# Altium footprint library BASE_BD.PcbLib: 62 footprints (part 4 of 4)
Each footprint in its own frame and in the unit in brackets; x right, y up, seen from the top. Pads: shape width x height; smd on the part's side, far side on the other; paste and mask are expansions set on the pad; w line width, h text height; cw(c..) or ccw(c..) is an arc to the next point about the centre after c.
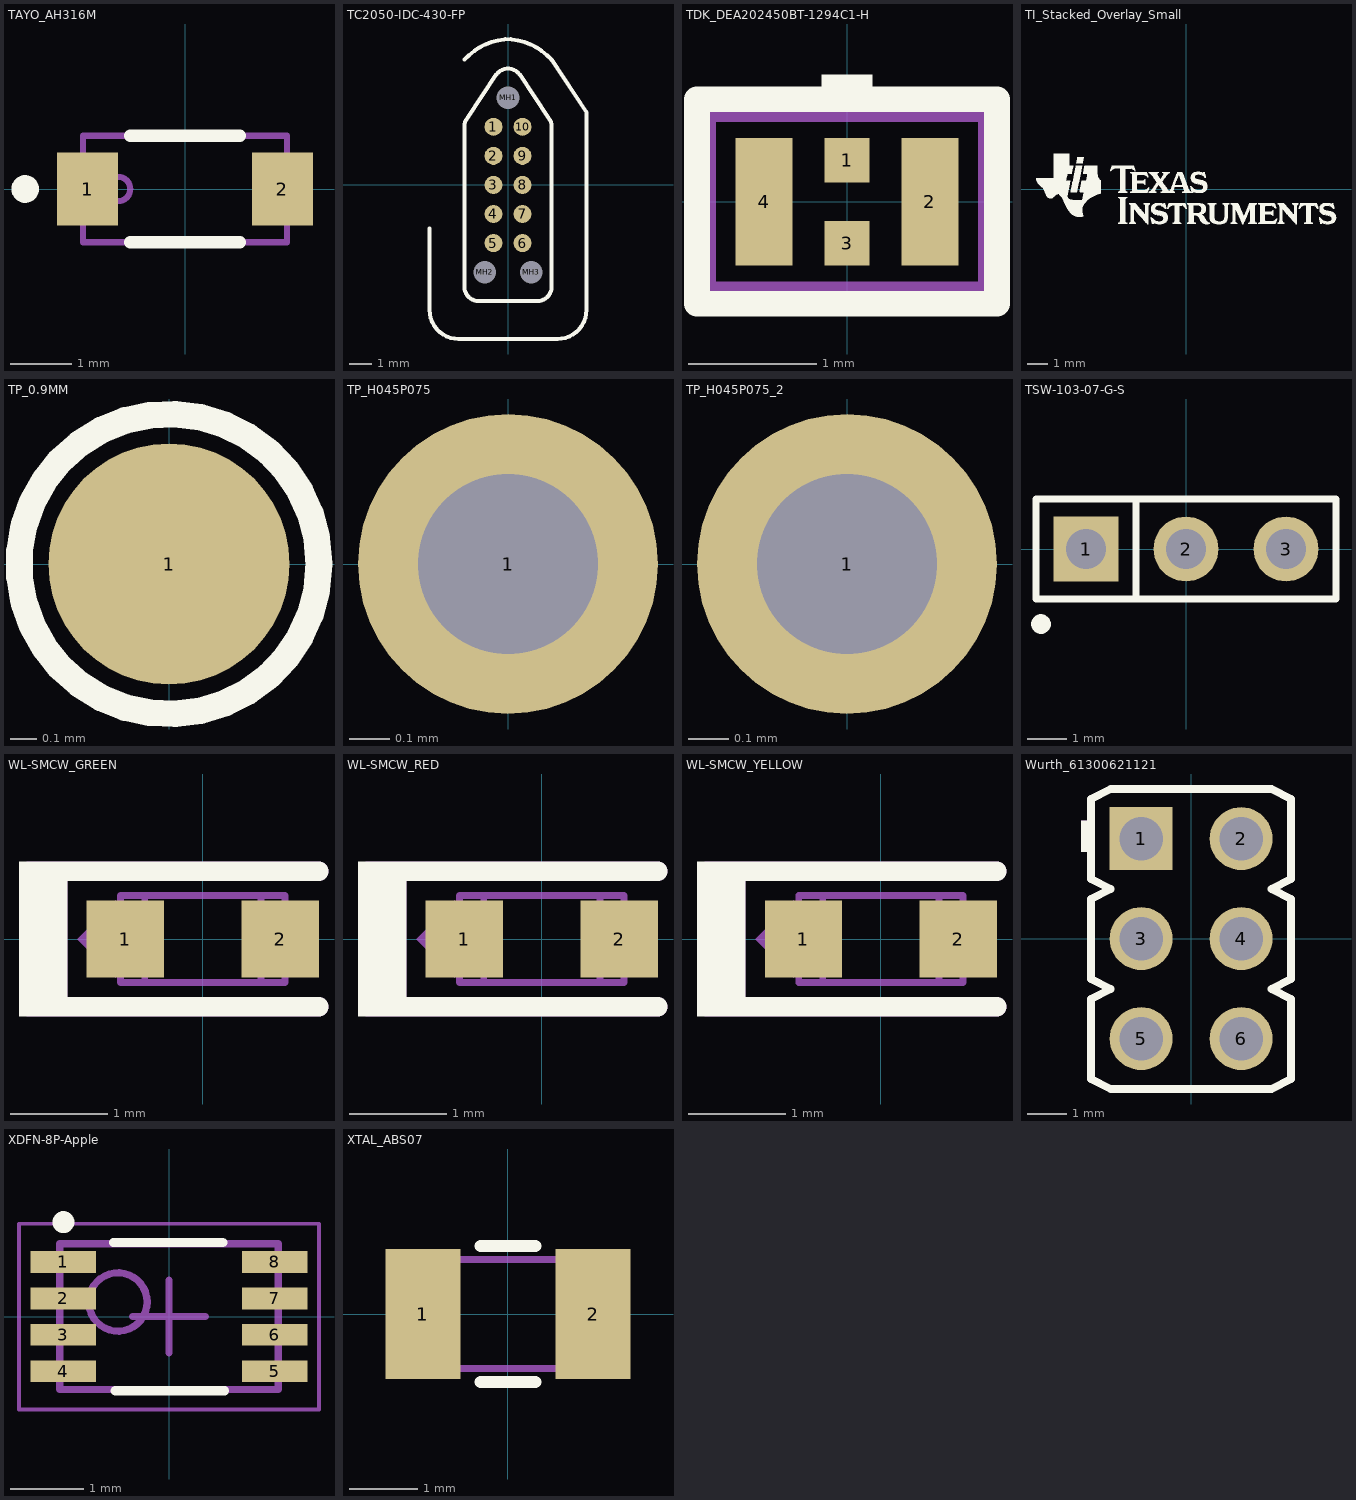
[diagram p3: the footprints below, top view; thin cyan lines are the x and y axes]

## TAYO_AH316M [mm] "SMD, 2-Leads, Body 3.2x1.6mm"
height 0.6
pads (2):
  rect 1x1.2 smd: 1(-1.6,0) 2(1.6,0)
Top Overlay:
  circle w0.254: c-2.627,0 r0.1
  lines w0.2: -0.9,-0.875 0.9,-0.875 ; -0.9,0.875 0.9,0.875
Mechanical 5:
  circle w0.1: c-1.1,0 r0.2
  lines w0.1: -1.675,-0.875 1.675,-0.875 1.675,0.875 -1.675,0.875 -1.675,-0.875
  text ".Designator" at 0.31,0.229 h0.64
3D body: height 0.61, standoff 0.01, extent -1.398,-0.299 -0.8,0.3
3D body: height 0.6, standoff 0, extent -1.675,-0.875 1.675,0.875

## TC2050-IDC-430-FP [mil] "TAG-CONNECT"
height 1285.83
pads (13):
  round 31 smd paste-16: 1(-25,100) 2(-25,50) 3(-25,0) 4(-25,-50) 5(-25,-100) 6(25,-100) 7(25,-50) 8(25,0) 9(25,50) 10(25,100)
  round 31 hole 39 unplated mask+8: MH1(0,150) MH2(-40,-150) MH3(40,-150)
Top Overlay:
  lines w7: -135,-75.22 -135,-215 ccw(c-85,-215) -85,-265 85,-265 ccw(c85,-215) 135,-215 135,-200 135,125 75,215 ; -74.51,215.56 cw(c4.71,144.7) 4.71,250.98 ; -4.71,250.98 cw(c-4.71,144.7) 74.51,215.56 ; -75,-175 ccw(c-50,-175) -50,-200 50,-200 ccw(c50,-175) 75,-175 75,100 ccw(c50,100) 70,115 20,190 ccw(c0,175) -20,190 -70,115 ccw(c-50,100) -75,100 -75,-175

## TDK_DEA202450BT-1294C1-H [mm] "SMD, 4-Leads, Body 2x1.25mm"
height 0.8
pads (4):
  rect 0.35x0.35 smd: 1(0,0.325) 3(0,-0.325)
  rect 0.45x1 smd: 2(0.65,0) 4(-0.65,0)
Top Overlay:
  rectangle: -0.2,0.797 0.2,0.997
  lines w0.2: -1.175,-0.8 1.175,-0.8 1.175,0.8 -1.175,0.8 -1.175,-0.8
Mechanical 5:
  rectangle: -0.2,0.674 0.2,0.899
  lines w0.1: -1.075,-0.675 -1.075,0.675 1.075,0.675 1.075,-0.675 -1.075,-0.675
3D body: height 0.8, standoff 0.7, extent -0.8,-0.4 -0.2,0.4
3D body: height 0.8, standoff 0.7, extent -1.075,-0.675 1.075,0.675
3D body: height 0.7, standoff 0, extent -1.075,-0.675 1.075,0.675

## TI_Stacked_Overlay_Small [mm]
height 1.415
Top Overlay:
  drawing of 18 lines, arcs and shapes, not listed

## TP_0.9MM [mm]
pads (1):
  round 0.9 smd paste-5 mask+0.05: 1(0,0)
Top Overlay:
  circle w0.1: c0,0 r0.56

## TP_H045P075 [mm] "TP_H0.45P0.75"
pads (1):
  round 0.75 hole 0.45 mask+0.064: 1(0,0)

## TP_H045P075_2 [mm]
pads (1):
  round 0.75 hole 0.45: 1(0,0)

## TSW-103-07-G-S [mm] "Samtec 100mil, 1x3, 230 mil above insulator"
height 8.382
pads (3):
  rect 1.65x1.65 hole 1.016 mask+0.064: 1(-2.54,0)
  round 1.65 hole 1.016 mask+0.064: 2(0,0) 3(2.54,0)
Top Overlay:
  circle w0.25: c-3.683,-1.905 r0.125
  lines w0.178: -1.27,-1.27 -1.27,1.27 ; -3.81,-1.27 3.81,-1.27 3.81,1.27 -3.81,1.27 -3.81,-1.27
Mechanical 5:
  rectangle: -3.048,-0.508 -2.032,0.508
  lines w0.127: -3.81,-1.27 -3.81,1.27 3.81,1.27 3.81,-1.27 -3.81,-1.27
  text ".Designator" at -1.524,-0.508 h1.02
3D body "SamtecTSW-07_3x1.stp": height 8.38, standoff -2.54, extent -3.81,-1.27 3.81,1.27

## WL-SMCW_GREEN [mm] "WURTH"
height 0.8
pads (2):
  rect 0.8x0.8 smd: 1(-0.8,0) 2(0.8,0)
Top Overlay:
  rectangle: -1.9,-0.8 -1.4,0.8
  lines w0.2: -1.6,-0.7 1.2,-0.7 ; -1.6,0.7 1.2,0.7
Mechanical 5:
  region: -0.9,-0.4 -0.9,0.4 -1.3,0
  lines w0.2: -1.65,-0.7 -1.65,0.55 ; 1.2,-0.7 -1.5,-0.7 ; 1.2,0.7 -1.5,0.7 ; -1.5,-0.7 -1.5,0.7 ; -1.5,-0.7 -1.8,-0.7 -1.8,0.7 -1.5,0.7
  text ".Designator" at -0.409,-0.3 h0.45
Mechanical 13:
  lines w0.07: -0.6,-0.45 -0.6,0.45 ; 0.6,-0.45 0.6,0.45 ; -0.85,-0.45 -0.85,0.45 0.85,0.45 0.85,-0.45 -0.85,-0.45
3D body: height 0.35, standoff 0, extent -0.849,-0.449 -0.601,0.449
3D body: height 0.35, standoff 0, extent -0.599,-0.449 0.599,0.449
3D body: height 0.35, standoff 0, extent 0.601,-0.449 0.849,0.449
3D body: height 0.8, standoff 0.35, extent -0.599,-0.449 0.599,0.449
3D body: height 0.36, standoff 0.35, extent -0.599,-0.449 0.599,0.449

## WL-SMCW_RED [mm] "WURTH"
height 0.8
pads (2):
  rect 0.8x0.8 smd: 1(-0.8,0) 2(0.8,0)
Top Overlay:
  rectangle: -1.9,-0.8 -1.4,0.8
  lines w0.2: -1.6,-0.7 1.2,-0.7 ; -1.6,0.7 1.2,0.7
Mechanical 5:
  region: -0.9,-0.4 -0.9,0.4 -1.3,0
  lines w0.2: -1.65,-0.7 -1.65,0.55 ; 1.2,-0.7 -1.5,-0.7 ; 1.2,0.7 -1.5,0.7 ; -1.5,-0.7 -1.5,0.7 ; -1.5,-0.7 -1.8,-0.7 -1.8,0.7 -1.5,0.7
  text ".Designator" at -0.8,-0.3 h0.45
Mechanical 13:
  lines w0.07: -0.6,-0.45 -0.6,0.45 ; 0.6,-0.45 0.6,0.45 ; -0.85,-0.45 -0.85,0.45 0.85,0.45 0.85,-0.45 -0.85,-0.45
3D body: height 0.35, standoff 0, extent -0.849,-0.449 -0.601,0.449
3D body: height 0.35, standoff 0, extent -0.599,-0.449 0.599,0.449
3D body: height 0.35, standoff 0, extent 0.601,-0.449 0.849,0.449
3D body: height 0.8, standoff 0.35, extent -0.599,-0.449 0.599,0.449
3D body: height 0.36, standoff 0.35, extent -0.599,-0.449 0.599,0.449

## WL-SMCW_YELLOW [mm] "WURTH"
height 0.8
pads (2):
  rect 0.8x0.8 smd: 1(-0.8,0) 2(0.8,0)
Top Overlay:
  rectangle: -1.9,-0.8 -1.4,0.8
  lines w0.2: -1.6,-0.7 1.2,-0.7 ; -1.6,0.7 1.2,0.7
Mechanical 5:
  region: -0.9,-0.4 -0.9,0.4 -1.3,0
  lines w0.2: -1.65,-0.7 -1.65,0.55 ; 1.2,-0.7 -1.5,-0.7 ; 1.2,0.7 -1.5,0.7 ; -1.5,-0.7 -1.8,-0.7 -1.8,0.7 -1.5,0.7 ; -1.5,-0.7 -1.5,0.7
  text ".Designator" at -0.308,-0.23 h0.45
Mechanical 13:
  lines w0.07: -0.6,-0.45 -0.6,0.45 ; 0.6,-0.45 0.6,0.45 ; -0.85,-0.45 0.85,-0.45 0.85,0.45 -0.85,0.45 -0.85,-0.45
3D body: height 0.8, standoff 0.35, extent -0.599,-0.449 0.599,0.449
3D body: height 0.35, standoff 0, extent 0.601,-0.449 0.849,0.449
3D body: height 0.35, standoff 0, extent -0.599,-0.449 0.599,0.449
3D body: height 0.35, standoff 0, extent -0.849,-0.449 -0.601,0.449
3D body: height 0.36, standoff 0.35, extent -0.599,-0.449 0.599,0.449

## Wurth_61300621121 [mm]
pads (6):
  rect 1.6x1.6 hole 1.1: 1(-1.27,2.54)
  round 1.6 hole 1.1: 2(1.27,2.54) 3(-1.27,0) 4(1.27,0) 5(-1.27,-2.54) 6(1.27,-2.54)
Top Overlay:
  rectangle: -2.8,2.2 -2.54,3
  lines w0.2: -2.54,-3.57 -2.04,-3.82 2.04,-3.82 2.54,-3.57 2.54,-1.53 2.04,-1.28 2.54,-1.03 2.54,1.01 2.04,1.26 2.54,1.51 2.54,3.55 2.04,3.8 -2.04,3.8 -2.54,3.55 -2.54,1.51 -2.04,1.26 -2.54,1.01 -2.54,-1.03 -2.04,-1.28 -2.54,-1.53 -2.54,-3.57
Mechanical 5:
  rectangle: -2.8,2.2 -2.54,3
  lines w0.1: -2.54,-3.57 -2.04,-3.82 2.04,-3.82 2.54,-3.57 2.54,-1.53 2.04,-1.28 2.54,-1.03 2.54,1.01 2.04,1.26 2.54,1.51 2.54,3.55 2.04,3.8 -2.04,3.8 -2.54,3.55 -2.54,1.51 -2.04,1.26 -2.54,1.01 -2.54,-1.03 -2.04,-1.28 -2.54,-1.53 -2.54,-3.57
  text ".Designator" at -1.8,-0.5 h1.02
3D body "61300621121.stp": height 8.57, standoff -2.97, extent -2.54,-3.82 2.54,3.8

## XDFN-8P-Apple [mm] "XDFN, 8-Leads, Body 3.00x2.00mm, Pitch 0.50mm, IPC Medium Density"
height 0.41
pads (8):
  rect 0.9x0.3 smd: 1(-1.45,0.75) 2(-1.45,0.25) 3(-1.45,-0.25) 4(-1.45,-0.75) 5(1.45,-0.75) 6(1.45,-0.25) 7(1.45,0.25) 8(1.45,0.75)
Top Overlay:
  circle w0.2: c-1.448,1.295 r0.05
  lines w0.127: -0.762,1.016 0.737,1.016 ; -0.737,-1.016 0.762,-1.016
Top Assembly:
  circle w0.1: c-0.7,0.2 r0.4
  lines w0.1: -1.5,-1 1.5,-1 1.5,1 -1.5,1 -1.5,-1
Top Courtyard:
  lines w0.05: -2.057,-1.275 2.057,-1.275 2.057,1.275 -2.057,1.275 -2.057,-1.275
  lines w0.1: -0.5,0 0.5,0 ; 0,-0.5 0,0.5
3D body "XDFN-8P-Apple.step": height 0.41, standoff 0, extent -1.5,-1 1.5,1

## XTAL_ABS07 [mm] "ABRACON"
height 0.9
pads (2):
  rect 1.1x1.9 smd: 1(-1.25,0) 2(1.25,0)
Top Overlay:
  lines w0.178: -0.4,-1 0.4,-1 ; -0.4,1 0.4,1
Mechanical 5:
  lines w0.1: -1.65,-0.8 -1.65,0.8 1.65,0.8 1.65,-0.8 -1.65,-0.8
  text ".Designator" at -0.584,-0.406 h0.7
3D body: height 0.9, standoff 0.8, extent -1.649,-0.799 1.649,0.799
3D body: height 0.8, standoff 0, extent -1.649,-0.799 1.649,0.799